# Altium footprint library SMD Coil.PcbLib: 12 footprints
Each footprint in its own frame and in the unit in brackets; x right, y up, seen from the top. Pads: shape width x height; smd on the part's side, far side on the other; paste and mask are expansions set on the pad; w line width, h text height; cw(c..) or ccw(c..) is an arc to the next point about the centre after c.
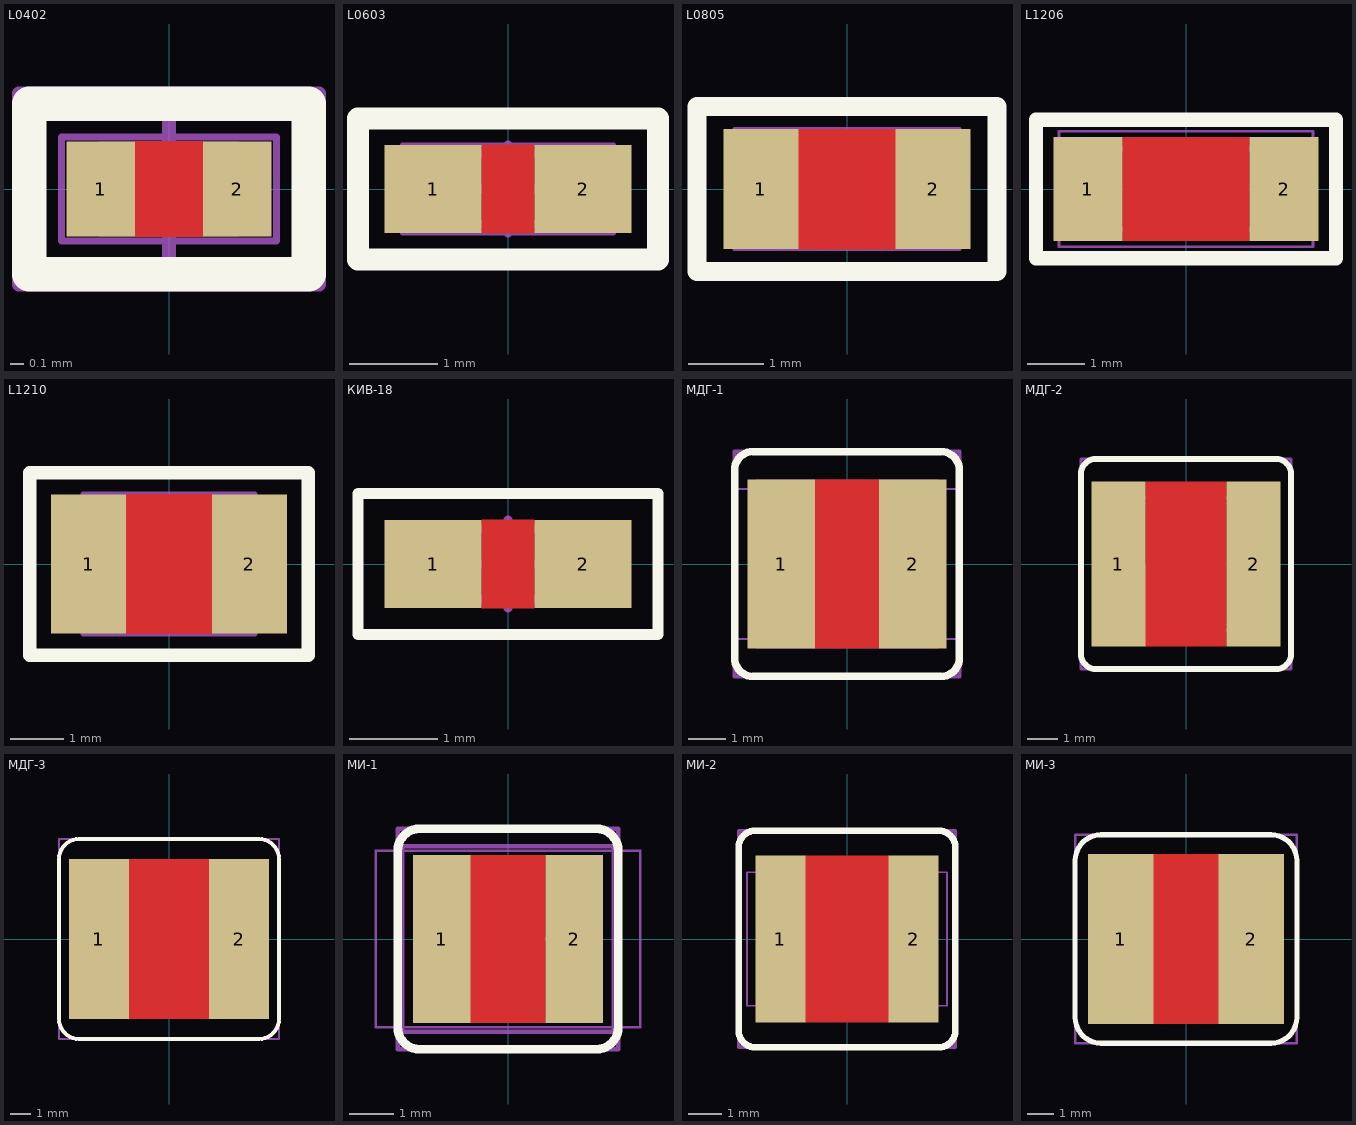
[diagram p0: the footprints below, top view; thin cyan lines are the x and y axes]

## L0402 [mm] "1005M"
height 0.2
pads (2):
  rect 0.5x0.7 smd: 1(-0.5,0) 2(0.5,0)
Top Layer:
  pour cut-out: -0.25,0.35 0.25,0.35 0.25,-0.35 -0.25,-0.35
Top Overlay:
  lines w0.25: -1.025,-0.625 1.025,-0.625 1.025,0.625 -1.025,0.625 -1.025,-0.625
Mechanical 7:
  lines w0.05: -0.787,-0.381 0.787,-0.381 0.787,0.381 -0.787,0.381 -0.787,-0.381
  text ".Designator" at -0.7,-0.2 h0.7
Mechanical 13:
  lines w0.1: -0.5,-0.3 -0.5,0.3 0.5,0.3 0.5,-0.3 -0.5,-0.3
Mechanical 15:
  lines w0.1: -0.5,0 0.5,0 ; 0,-0.5 0,0.5 ; -1.1,-0.7 -1.1,0.7 1.1,0.7 1.1,-0.7 -1.1,-0.7
3D body "User Library-Chip Inductor (2).step": height 0.5, standoff 0, extent -0.5,-0.3 0.5,0.3

## L0603 [mm] "1608M"
pads (2):
  rect 1.1x1 smd: 1(-0.85,0) 2(0.85,0)
Top Layer:
  pour cut-out: -0.3,0.5 0.3,0.5 0.3,-0.5 -0.3,-0.5
Top Overlay:
  lines w0.25: -1.7,-0.8 1.7,-0.8 1.7,0.8 -1.7,0.8 -1.7,-0.8
Mechanical 7:
  lines w0.05: -1.2,-0.5 -1.2,0.5 1.2,0.5 1.2,-0.5 -1.2,-0.5
  text ".Designator" at -1.1,-0.3 h1
Mechanical 13:
  lines w0.1: -0.8,-0.4 0.8,-0.4 0.8,0.4 -0.8,0.4 -0.8,-0.4
Mechanical 15:
  lines w0.1: -0.5,0 0.5,0 ; 0,-0.5 0,0.5 ; -1.7,-0.8 -1.7,0.8 1.7,0.8 1.7,-0.8 -1.7,-0.8
3D body "User Library-Chip Inductor (1).step": height 0.8, standoff 0, extent -0.8,-0.475 0.8,0.475

## L0805 [mm]
height 1
pads (2):
  rect 1x1.6 smd: 1(-1.15,0) 2(1.15,0)
Top Layer:
  pour cut-out: -0.65,0.8 0.65,0.8 0.65,-0.8 -0.65,-0.8
Top Overlay:
  lines w0.25: -2,-1.1 -2,1.1 2,1.1 2,-1.1 -2,-1.1
Mechanical 7:
  lines w0.05: -1.5,-0.8 1.5,-0.8 1.5,0.8 -1.5,0.8 -1.5,-0.8
  text ".Designator" at -1.25,-0.25 h1.2
Mechanical 13:
  lines w0.1: -1,-0.6 1,-0.6 1,0.6 -1,0.6 -1,-0.6
Mechanical 15:
  lines w0.1: -0.5,0 0.5,0 ; 0,-0.5 0,0.5 ; -2,-1.1 2,-1.1 2,1.1 -2,1.1 -2,-1.1
3D body "User Library-Chip Inductor (3).step": height 1.2, standoff 0, extent -0.975,-0.65 1.025,0.65

## L1206 [mm]
height 1.6
pads (2):
  rect 1.2x1.8 smd: 1(-1.7,0) 2(1.7,0)
Top Layer:
  pour cut-out: -1.1,0.9 1.1,0.9 1.1,-0.9 -1.1,-0.9
Top Overlay:
  lines w0.25: -2.6,-1.2 -2.6,1.2 2.6,1.2 2.6,-1.2 -2.6,-1.2
Mechanical 7:
  lines w0.05: -2.2,-1 -2.2,1 2.2,1 2.2,-1 -2.2,-1
  text ".Designator" at -1.75,-0.5 h1.5
Mechanical 13:
  lines w0.1: -1.6,-0.7 1.6,-0.7 1.6,0.7 -1.6,0.7 -1.6,-0.7
Mechanical 15:
  lines w0.1: -0.5,0 0.5,0 ; 0,-0.5 0,0.5 ; -2.6,-1.2 -2.6,1.2 2.6,1.2 2.6,-1.2 -2.6,-1.2

## L1210 [mm] "3225М"
height 1.6
pads (2):
  rect 1.4x2.6 smd: 1(-1.5,0) 2(1.5,0)
Top Layer:
  pour cut-out: -0.8,1.3 0.8,1.3 0.8,-1.3 -0.8,-1.3
Top Overlay:
  lines w0.25: -2.6,-1.7 2.6,-1.7 2.6,1.7 -2.6,1.7 -2.6,-1.7
Mechanical 13:
  lines w0.1: -1.6,-1.3 -1.6,1.3 1.6,1.3 1.6,-1.3 -1.6,-1.3
Mechanical 15:
  lines w0.1: -0.5,0 0.5,0 ; 0,-0.5 0,0.5 ; -2.6,-1.7 2.6,-1.7 2.6,1.7 -2.6,1.7 -2.6,-1.7
3D body "User Library-Chip Inductor (9).step": height 1.35, standoff 0, extent -1.6,-1.25 1.6,1.25

## КИВ-18 [mm] "1608M"
pads (2):
  rect 1.1x1 smd: 1(-0.85,0) 2(0.85,0)
Top Layer:
  pour cut-out: -0.3,0.5 0.3,0.5 0.3,-0.5 -0.3,-0.5
Top Overlay:
  lines w0.125: -1.7,-0.8 1.7,-0.8 1.7,0.8 -1.7,0.8 -1.7,-0.8
Mechanical 13:
  lines w0.1: -0.8,-0.4 0.8,-0.4 0.8,0.4 -0.8,0.4 -0.8,-0.4
Mechanical 15:
  lines w0.1: -0.5,0 0.5,0 ; 0,-0.5 0,0.5 ; -1.7,-0.8 -1.7,0.8 1.7,0.8 1.7,-0.8 -1.7,-0.8
3D body: height 0.2, standoff 0, extent 0.5,-0.425 0.825,0.425
3D body: height 0.8, standoff 0.2, extent 0.5,-0.4 0.8,0.4
3D body: height 0.8, standoff 0.2, extent -0.8,-0.4 -0.5,0.4
3D body: height 0.7, standoff 0.3, extent -0.5,-0.375 0.5,0.375
3D body: height 0.2, standoff 0, extent -0.825,-0.425 -0.5,0.425

## МДГ-1 [mm]
height 5
pads (2):
  rect 1.8x4.5 smd: 1(-1.75,0) 2(1.75,0)
Top Layer:
  pour cut-out: -0.85,2.25 0.85,2.25 0.85,-2.25 -0.85,-2.25
Top Overlay:
  lines w0.2: -3,-2.5 ccw(c-2.5,-2.5) -2.5,-3 2.5,-3 ccw(c2.5,-2.5) 3,-2.5 3,2.5 ccw(c2.5,2.5) 2.5,3 -2.5,3 ccw(c-2.5,2.5) -3,2.5 -3,-2.5
Mechanical 7:
  lines w0.05: -3,-2 -3,2 3,2 3,-2 -3,-2
  text ".Designator" at -2.25,-0.5 h1.5
Mechanical 13:
  lines w0.1: -2.4,-2.2 -2.4,2.2 2.4,2.2 2.4,-2.2 -2.4,-2.2
  text "Check!" at -3.1,-0.4 h1.52
Mechanical 15:
  lines w0.1: -1.25,0 1.25,0 ; 0,-1.25 0,1.25 ; -3,-3 3,-3 3,3 -3,3 -3,-3
3D body "User Library-CD43NP.step": height 3.5, standoff 0, extent -2.4,-2.15 2.4,2.15

## МДГ-2 [mm]
height 6
pads (2):
  rect 1.8x5.5 smd: 1(-2.25,0) 2(2.25,0)
Top Layer:
  pour cut-out: -1.35,2.75 1.35,2.75 1.35,-2.75 -1.35,-2.75
Top Overlay:
  lines w0.2: -3.5,-3 ccw(c-3,-3) -3,-3.5 3,-3.5 ccw(c3,-3) 3.5,-3 3.5,3 ccw(c3,3) 3,3.5 -3,3.5 ccw(c-3,3) -3.5,3 -3.5,-3
Mechanical 7:
  lines w0.05: -3,-2 -3,2 3,2 3,-2 -3,-2
  text ".Designator" at -2.25,-0.5 h1.5
Mechanical 13:
  lines w0.1: -2.4,-2.2 2.4,-2.2 2.4,2.2 -2.4,2.2 -2.4,-2.2
  text "Check!" at -3.6,-0.4 h1.52
Mechanical 15:
  lines w0.1: -1.25,0 1.25,0 ; 0,-1.25 0,1.25 ; -3.5,-3.5 -3.5,3.5 3.5,3.5 3.5,-3.5 -3.5,-3.5
3D body "User Library-CD43NP.step": height 3.5, standoff 0, extent -2.4,-2.15 2.4,2.15

## МДГ-3 [mm]
height 6.3
pads (2):
  rect 3x8 smd: 1(-3.5,0) 2(3.5,0)
Top Layer:
  pour cut-out: -2,4 2,4 2,-4 -2,-4
Top Overlay:
  lines w0.2: -5.5,-4 ccw(c-4.5,-4) -4.5,-5 4.5,-5 ccw(c4.5,-4) 5.5,-4 5.5,4 ccw(c4.5,4) 4.5,5 -4.5,5 ccw(c-4.5,4) -5.5,4 -5.5,-4
Mechanical 7:
  lines w0.05: -3,-2 -3,2 3,2 3,-2 -3,-2
  text ".Designator" at -2.25,-0.5 h1.5
Mechanical 13:
  lines w0.1: -3.5,-3.5 3.5,-3.5 3.5,3.5 -3.5,3.5 -3.5,-3.5
  text "Check!" at -3.2,-0.6 h1.52
Mechanical 15:
  lines w0.1: -1.25,0 1.25,0 ; 0,-1.25 0,1.25 ; -5.5,-5 5.5,-5 5.5,5 -5.5,5 -5.5,-5

## МИ-1 [mm]
height 4.6
pads (2):
  rect 1.3x3.8 smd: 1(-1.5,0) 2(1.5,0)
Top Layer:
  pour cut-out: -0.85,1.9 0.85,1.9 0.85,-1.9 -0.85,-1.9
Top Overlay:
  lines w0.2: -2.5,-2 ccw(c-2,-2) -2,-2.5 2,-2.5 ccw(c2,-2) 2.5,-2 2.5,2 ccw(c2,2) 2,2.5 -2,2.5 ccw(c-2,2) -2.5,2 -2.5,-2
Mechanical 7:
  lines w0.05: -3,-2 -3,2 3,2 3,-2 -3,-2
  text ".Designator" at -2.25,-0.5 h1.5
Mechanical 13:
  lines w0.1: -2.4,-2.1 -2.4,2.1 2.4,2.1 2.4,-2.1 -2.4,-2.1
  text "Check!" at -3,-0.4 h1.52
Mechanical 15:
  lines w0.1: -1.25,0 1.25,0 ; 0,-1.25 0,1.25 ; -2.5,-2.5 2.5,-2.5 2.5,2.5 -2.5,2.5 -2.5,-2.5
3D body "User Library-CD43NP.step": height 3.5, standoff 0, extent -2.4,-2.15 2.4,2.15

## МИ-2 [mm]
height 5.8
pads (2):
  rect 1.5x5 smd: 1(-2,0) 2(2,0)
Top Layer:
  pour cut-out: -1.25,2.5 1.25,2.5 1.25,-2.5 -1.25,-2.5
Top Overlay:
  lines w0.2: -3.25,-2.75 ccw(c-2.75,-2.75) -2.75,-3.25 2.75,-3.25 ccw(c2.75,-2.75) 3.25,-2.75 3.25,2.75 ccw(c2.75,2.75) 2.75,3.25 -2.75,3.25 ccw(c-2.75,2.75) -3.25,2.75 -3.25,-2.75
Mechanical 7:
  lines w0.05: -3,-2 -3,2 3,2 3,-2 -3,-2
  text ".Designator" at -2.25,-0.5 h1.5
Mechanical 13:
  lines w0.1: -2.4,-2.2 -2.4,2.2 2.4,2.2 2.4,-2.2 -2.4,-2.2
  text "Check!" at -3.3,-0.4 h1.52
Mechanical 15:
  lines w0.1: -1.25,0 1.25,0 ; 0,-1.25 0,1.25 ; -3.25,-3.25 3.25,-3.25 3.25,3.25 -3.25,3.25 -3.25,-3.25
3D body "User Library-CD43NP.step": height 3.5, standoff 0, extent -2.4,-2.15 2.4,2.15

## МИ-3 [mm]
height 5.9
pads (2):
  rect 2.5x6.5 smd: 1(-2.5,0) 2(2.5,0)
Top Layer:
  pour cut-out: -1.25,3.25 1.25,3.25 1.25,-3.25 -1.25,-3.25
Top Overlay:
  lines w0.2: -4.25,-3 ccw(c-3.25,-3) -3.25,-4 3.25,-4 ccw(c3.25,-3) 4.25,-3 4.25,3 ccw(c3.25,3) 3.25,4 -3.25,4 ccw(c-3.25,3) -4.25,3 -4.25,-3
Mechanical 7:
  lines w0.05: -3,-2 3,-2 3,2 -3,2 -3,-2
  text ".Designator" at -2.25,-0.5 h1.5
Mechanical 13:
  lines w0.1: -3.5,-3.2 -3.5,3.2 3.5,3.2 3.5,-3.2 -3.5,-3.2
  text "Check!" at -3.5,-0.4 h1.52
Mechanical 15:
  lines w0.1: -1.25,0 1.25,0 ; 0,-1.25 0,1.25 ; -4.25,-4 4.25,-4 4.25,4 -4.25,4 -4.25,-4